# EAGLE library part LM1524 (library wolfi)
Regulating Pulse Width Modulator
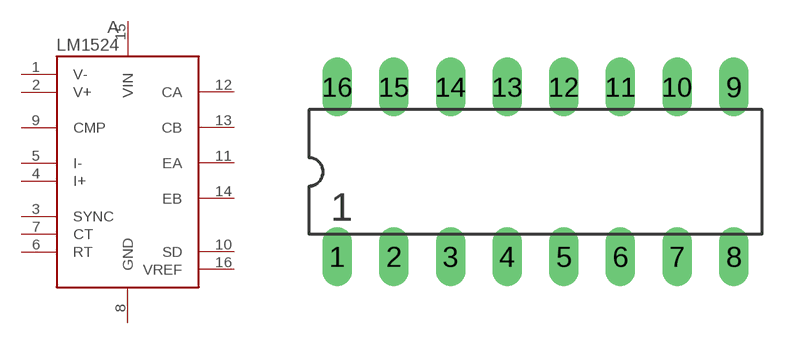
[diagram p0: symbol with the pads of DIL16; footprint DIL16]

Designator prefix A

## LM1524D  [DIL16]
1  V-  in
2  V+  in
3  SYNC  out
4  I+  in
5  I-  in
6  RT  pas
7  CT  pas
8  GND  pwr
9  CMP  pas
10  SD  in
11  EA  pas
12  CA  pas
13  CB  pas
14  EB  pas
15  VIN  pwr
16  VREF  out

## Footprint DIL16 (pad centres in mm)
DIL 16 Gehäuse. Anchor an Pin 1
drill 0.813 long: 1 0,0; 2 2.54,0; 3 5.08,0; 4 7.62,0; 5 10.16,0; 6 12.7,0; 7 15.24,0; 8 17.78,0; 9 17.78,7.62; 10 15.24,7.62; 11 12.7,7.62; 12 10.16,7.62; 13 7.62,7.62; 14 5.08,7.62; 15 2.54,7.62; 16 0,7.62